# EAGLE library part RESISTOR-ARRAY (library misc)
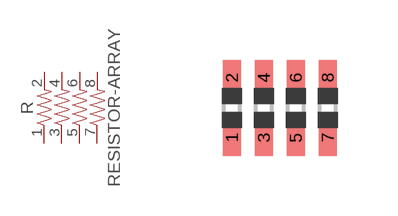
[diagram p6: symbol with the pads of 4X0603; footprint 4X0603]

Designator prefix R

## RESISTOR-ARRAY  [4X0603]
1  1  pas
2  2  pas
3  3  pas
4  4  pas
5  5  pas
6  6  pas
7  7  pas
8  8  pas

## Footprint 4X0603 (pad centres in mm)
Generic 1608 (0603) package 0.2mm courtyard excess rounded to nearest 0.05mm.
smd 0.45 x 0.9: 1 -1.2,-0.75; 2 -1.2,0.75; 3 -0.4,-0.75; 4 -0.4,0.75; 5 0.4,-0.75; 6 0.4,0.75; 7 1.2,-0.75; 8 1.2,0.75